# EAGLE library part MICROSD (library connector)
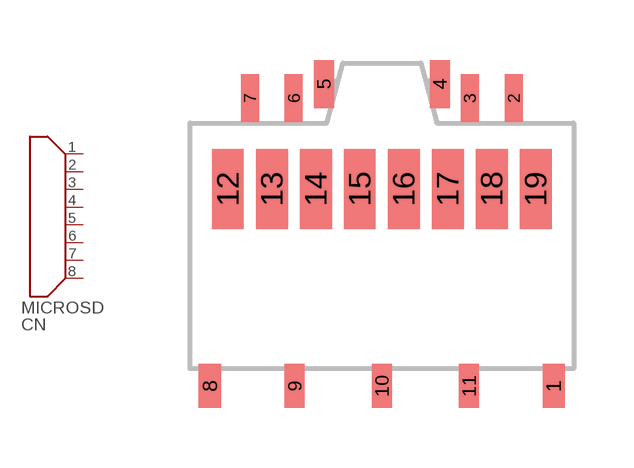
[diagram p0: symbol with the pads of BLOCK_SD_CONNECTOR; footprint BLOCK_SD_CONNECTOR]

Designator prefix CN

## MICROSD  [BLOCK_SD_CONNECTOR]
1  P$1  pas
2  P$2  pas
3  P$3  pas
4  P$4  pas
5  P$5  pas
6  P$6  pas
7  P$7  pas
8  P$8  pas

## Footprint BLOCK_SD_CONNECTOR (pad centres in mm)
smd 0.55 x 1.1: 1 4.3,-0.43; 8 -4.3,-0.43
smd 0.45 x 1.2: 2 3.3,6.77; 3 2.2,6.77; 6 -2.2,6.77; 7 -3.3,6.77
smd 0.5 x 1.2: 4 1.45,7.13; 5 -1.45,7.13
smd 0.5 x 1.1: 9 -2.18,-0.43; 10 0,-0.43; 11 2.18,-0.43
smd 0.8 x 2: 12 -3.85,4.5; 13 -2.75,4.5; 14 -1.65,4.5; 15 -0.55,4.5; 16 0.55,4.5; 17 1.65,4.5; 18 2.75,4.5; 19 3.85,4.5